# Altium schematic symbol library TCAN3414DRBR.SchLib: 1 symbol
Pins are listed as number, name and electrical type; pins without a type are passive.

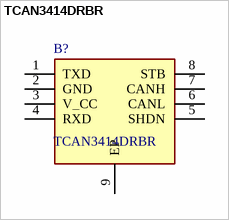
[diagram p0: symbol TCAN3414DRBR]

## TCAN3414DRBR
designator B?
CAN Interface IC 3.3-V CAN FD transceiver with shut-down and standby mode; Manufacturer_Name: Texas Instruments; Geometry.Height: 1mm; Mouser Part Number: 595-TCAN3414DRBR; Mouser Price/Stock: https://www.mouser.co.uk/ProductDetail/Texas-Instruments/TCAN3414DRBR?qs=2wMNvWM5ZX6YBBH9qF6w4g%3D%3D; Manufacturer_Part_Number: TCAN3414DRBR; Datasheet Link: https://www.ti.com/lit/ds/symlink/tcan3413.pdf?ts=1714741551942&ref_url=https%253A%252F%252Fwww.ti.com%252Fproduct%252FTCAN3413
footprint SON65P300X300X100-9N-D
pins: 1 TXD, 2 GND, 3 V_CC, 4 RXD, 5 SHDN, 6 CANL, 7 CANH, 8 STB, 9 EP